# EAGLE library part CMUTOSC2 (library ck)
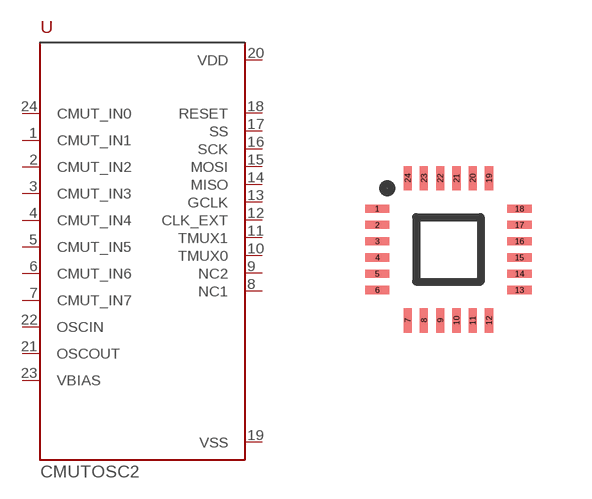
[diagram p2: symbol with the pads of CMUTIC2_6X4; footprint CMUTIC2_6X4]

Designator prefix U

## CMUTOSC2  [CMUTIC2_6X4]
1  CMUT_IN1  in
2  CMUT_IN2  in
3  CMUT_IN3  in
4  CMUT_IN4  in
5  CMUT_IN5  in
6  CMUT_IN6  in
7  CMUT_IN7  in
8  NC1  in
9  NC2  in
10  TMUX0  in
11  TMUX1  in
12  CLK_EXT  in
13  GCLK  in
14  MISO  in
15  MOSI  in
16  SCK  in
17  SS  in
18  RESET  in
19  VSS  pwr
20  VDD  pwr
21  OSCOUT
22  OSCIN
23  VBIAS
24  CMUT_IN0  in

## Footprint CMUTIC2_6X4 (pad centres in mm)
smd 0.61 x 0.203: 1 -1.778,1.016; 2 -1.778,0.61; 3 -1.778,0.203; 4 -1.778,-0.203; 5 -1.778,-0.61; 6 -1.778,-1.016; 13 1.778,-1.016; 14 1.778,-0.61; 15 1.778,-0.203; 16 1.778,0.203; 17 1.778,0.61; 18 1.778,1.016
smd 0.203 x 0.61: 7 -1.016,-1.778; 8 -0.61,-1.778; 9 -0.203,-1.778; 10 0.203,-1.778; 11 0.61,-1.778; 12 1.016,-1.778; 19 1.016,1.778; 20 0.61,1.778; 21 0.203,1.778; 22 -0.203,1.778; 23 -0.61,1.778; 24 -1.016,1.778